# Altium footprint library VREG_LM2596SX-ADJ_NOPB.PcbLib: 1 footprints
Each footprint in its own frame and in the unit in brackets; x right, y up, seen from the top. Pads: shape width x height; smd on the part's side, far side on the other; paste and mask are expansions set on the pad; w line width, h text height; cw(c..) or ccw(c..) is an arc to the next point about the centre after c.
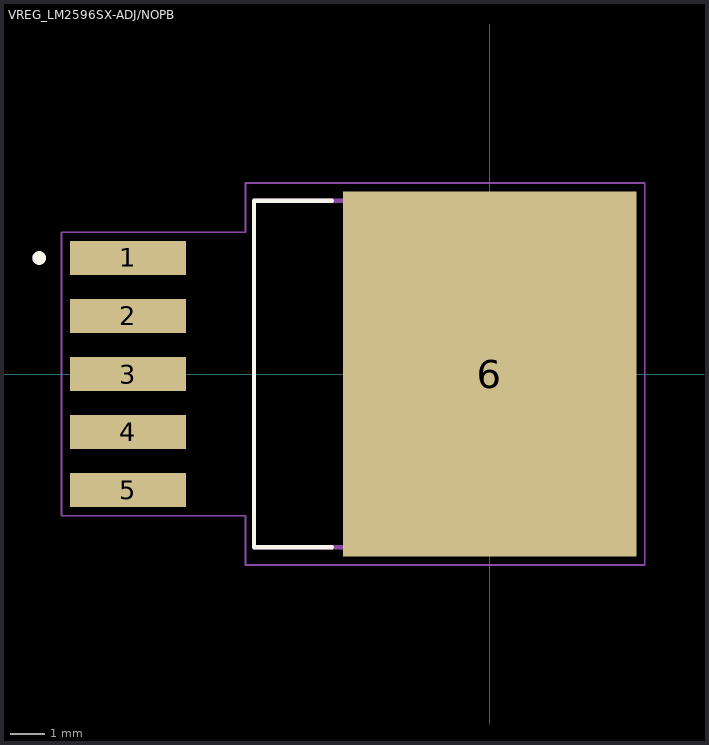
[diagram p0: the footprint, top view; thin cyan lines are the x and y axes]

## VREG_LM2596SX-ADJ/NOPB [mm]
pads (6):
  rect 3.4x1 smd paste-3 mask+0: 1(-10.6,3.4) 2(-10.6,1.7) 3(-10.6,0) 4(-10.6,-1.7) 5(-10.6,-3.4)
  rect 8.6x10.7 smd paste-6 mask+0: 6(0,0)
Top Overlay:
  circle w0.2: c-13.2,3.4 r0.1
  lines w0.127: -4.62,-5.08 -6.905,-5.08 -6.905,5.08 -4.62,5.08
Top Paste:
  region: 4.25,-5.3 -4.25,-5.3 -4.25,5.3 4.25,5.3
  region: -8.95,-0.45 -12.25,-0.45 -12.25,0.45 -8.95,0.45
  region: -8.95,1.25 -12.25,1.25 -12.25,2.15 -8.95,2.15
  region: -8.95,2.95 -12.25,2.95 -12.25,3.85 -8.95,3.85
  region: -8.95,-2.15 -12.25,-2.15 -12.25,-1.25 -8.95,-1.25
  region: -8.95,-3.85 -12.25,-3.85 -12.25,-2.95 -8.95,-2.95
Top Solder:
  region: 4.37,-5.42 -4.37,-5.42 -4.37,5.42 4.37,5.42
  region: -8.83,-0.57 -12.37,-0.57 -12.37,0.57 -8.83,0.57
  region: -8.83,1.13 -12.37,1.13 -12.37,2.27 -8.83,2.27
  region: -8.83,2.83 -12.37,2.83 -12.37,3.97 -8.83,3.97
  region: -8.83,-2.27 -12.37,-2.27 -12.37,-1.13 -8.83,-1.13
  region: -8.83,-3.97 -12.37,-3.97 -12.37,-2.83 -8.83,-2.83
Mechanical 13:
  circle w0.2: c-13.2,3.4 r0.1
  lines w0.127: -6.905,-5.08 -6.905,5.08 2.02,5.08 2.02,-5.08 -6.905,-5.08
Mechanical 15:
  lines w0.05: -12.55,-4.15 -7.155,-4.15 -7.155,-5.6 4.55,-5.6 4.55,5.6 -7.155,5.6 -7.155,4.15 -12.55,4.15 -12.55,-4.15
3D body "step_temp.STEP": height 4.65, standoff -0.15, extent -7.175,-5.08 7.175,5.08